# Altium footprint library connectors.PcbLib: 53 footprints (part 4 of 4)
Each footprint in its own frame and in the unit in brackets; x right, y up, seen from the top. Pads: shape width x height; smd on the part's side, far side on the other; paste and mask are expansions set on the pad; w line width, h text height; cw(c..) or ccw(c..) is an arc to the next point about the centre after c.
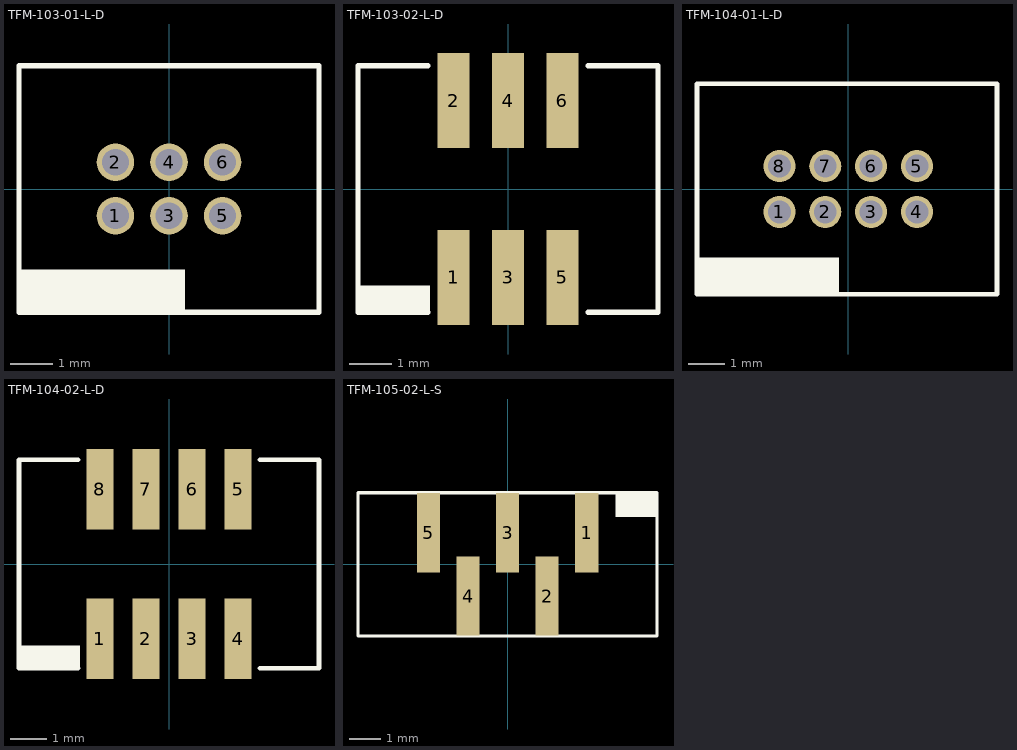
[diagram p3: the footprints below, top view; thin cyan lines are the x and y axes]

## TFM-103-01-L-D [mm] "Samtec 50 mil through hole connector"
pads (6):
  round 0.89 hole 0.635: 1(-1.27,-0.635) 2(-1.27,0.635) 3(0,-0.635) 4(0,0.635) 5(1.27,-0.635) 6(1.27,0.635)
Top Overlay:
  rectangle: -3.556,-2.921 0.381,-1.905
  lines w0.127: -3.556,-2.921 -3.556,2.921 3.556,2.921 3.556,-2.921 -3.556,-2.921
3D body "TFM-103-01-L-D.stp": height 5.59, standoff -1.98, extent -3.493,-2.858 3.493,2.857

## TFM-103-02-L-D [mm]
pads (6):
  rect 0.74x2.22 smd: 1(-1.27,-2.065) 2(-1.27,2.065) 3(0,-2.065) 4(0,2.065) 5(1.27,-2.065) 6(1.27,2.065)
Top Overlay:
  rectangle: -3.5,-2.875 -1.825,-2.25
  lines w0.127: -1.875,-2.875 -3.5,-2.875 -3.5,2.875 -1.875,2.875 ; 1.875,-2.875 3.5,-2.875 3.5,2.875 1.875,2.875
3D body "Samtec-TFM-103-02-X-D.step": height 5.59, standoff -0.15, extent -3.485,-2.96 3.5,3.01

## TFM-104-01-L-D [mm] "Samtec 50 mil through hole connector"
pads (8):
  round 0.89 hole 0.635: 1(-1.905,-0.635) 2(-0.635,-0.635) 3(0.635,-0.635) 4(1.905,-0.635) 5(1.905,0.635) 6(0.635,0.635) 7(-0.635,0.635) 8(-1.905,0.635)
Top Overlay:
  rectangle: -4.191,-2.921 -0.254,-1.905
  lines w0.127: -4.191,-2.921 -4.191,2.921 4.125,2.921 4.125,-2.921 -4.191,-2.921
3D body "TFM-104-01-L-D.stp": height 5.59, standoff -1.98, extent -4.127,-2.865 4.127,2.85

## TFM-104-02-L-D [mm]
pads (8):
  rect 0.74x2.22 smd: 1(-1.905,-2.065) 2(-0.635,-2.065) 3(0.635,-2.065) 4(1.905,-2.065) 5(1.905,2.065) 6(0.635,2.065) 7(-0.635,2.065) 8(-1.905,2.065)
Top Overlay:
  rectangle: -4.135,-2.875 -2.46,-2.25
  lines w0.127: -2.51,-2.875 -4.135,-2.875 -4.135,2.875 -2.51,2.875 ; 2.51,-2.875 4.135,-2.875 4.135,2.875 2.51,2.875
3D body "TFM-104-02-L-D.stp": height 5.59, standoff -0.15, extent -4.127,-2.985 4.128,2.984

## TFM-105-02-L-S [mm] "Samtec TFM, single row, 5 pos"
pads (5):
  rect 0.74x2.54 smd: 1(2.54,1.015) 2(1.27,-1.015) 3(0,1.015) 4(-1.27,-1.015) 5(-2.54,1.015)
Top Overlay:
  rectangle: 3.455,1.524 4.826,2.325
  lines w0.1: -4.8,-2.3 4.8,-2.3 4.8,2.3 -4.8,2.3 -4.8,-2.3
3D body: height 4, standoff 0, extent -4.8,-2.3 -3.1,2.3
3D body: height 4, standoff 0, extent 3.1,-2.3 4.8,2.3
3D body: height 1.44, standoff 0, extent -4.8,-1.5 4.8,2
3D body: height 3.47, standoff 1.44, extent -2.79,-0.25 -2.29,0.25
3D body: height 3.47, standoff 1.44, extent -1.52,-0.25 -1.02,0.25
3D body: height 3.47, standoff 1.44, extent 2.29,-0.25 2.79,0.25
3D body: height 3.47, standoff 1.44, extent 1.02,-0.25 1.52,0.25
3D body: height 3.47, standoff 1.44, extent -0.25,-0.25 0.25,0.25
3D body: height 5.59, standoff 0, extent 3.1,1.5 4.8,2
3D body: height 5.59, standoff 0, extent -4.8,1.5 0.7,2
3D body: height 5.59, standoff 1.44, extent -4.8,-2.3 4.8,-1.5
3D body: height 5.59, standoff 1.44, extent -4.8,2 4.8,2.3